# Altium schematic symbol library Schlib1.SchLib: 31 symbols
Pins are listed as number, name and electrical type; pins without a type are passive.

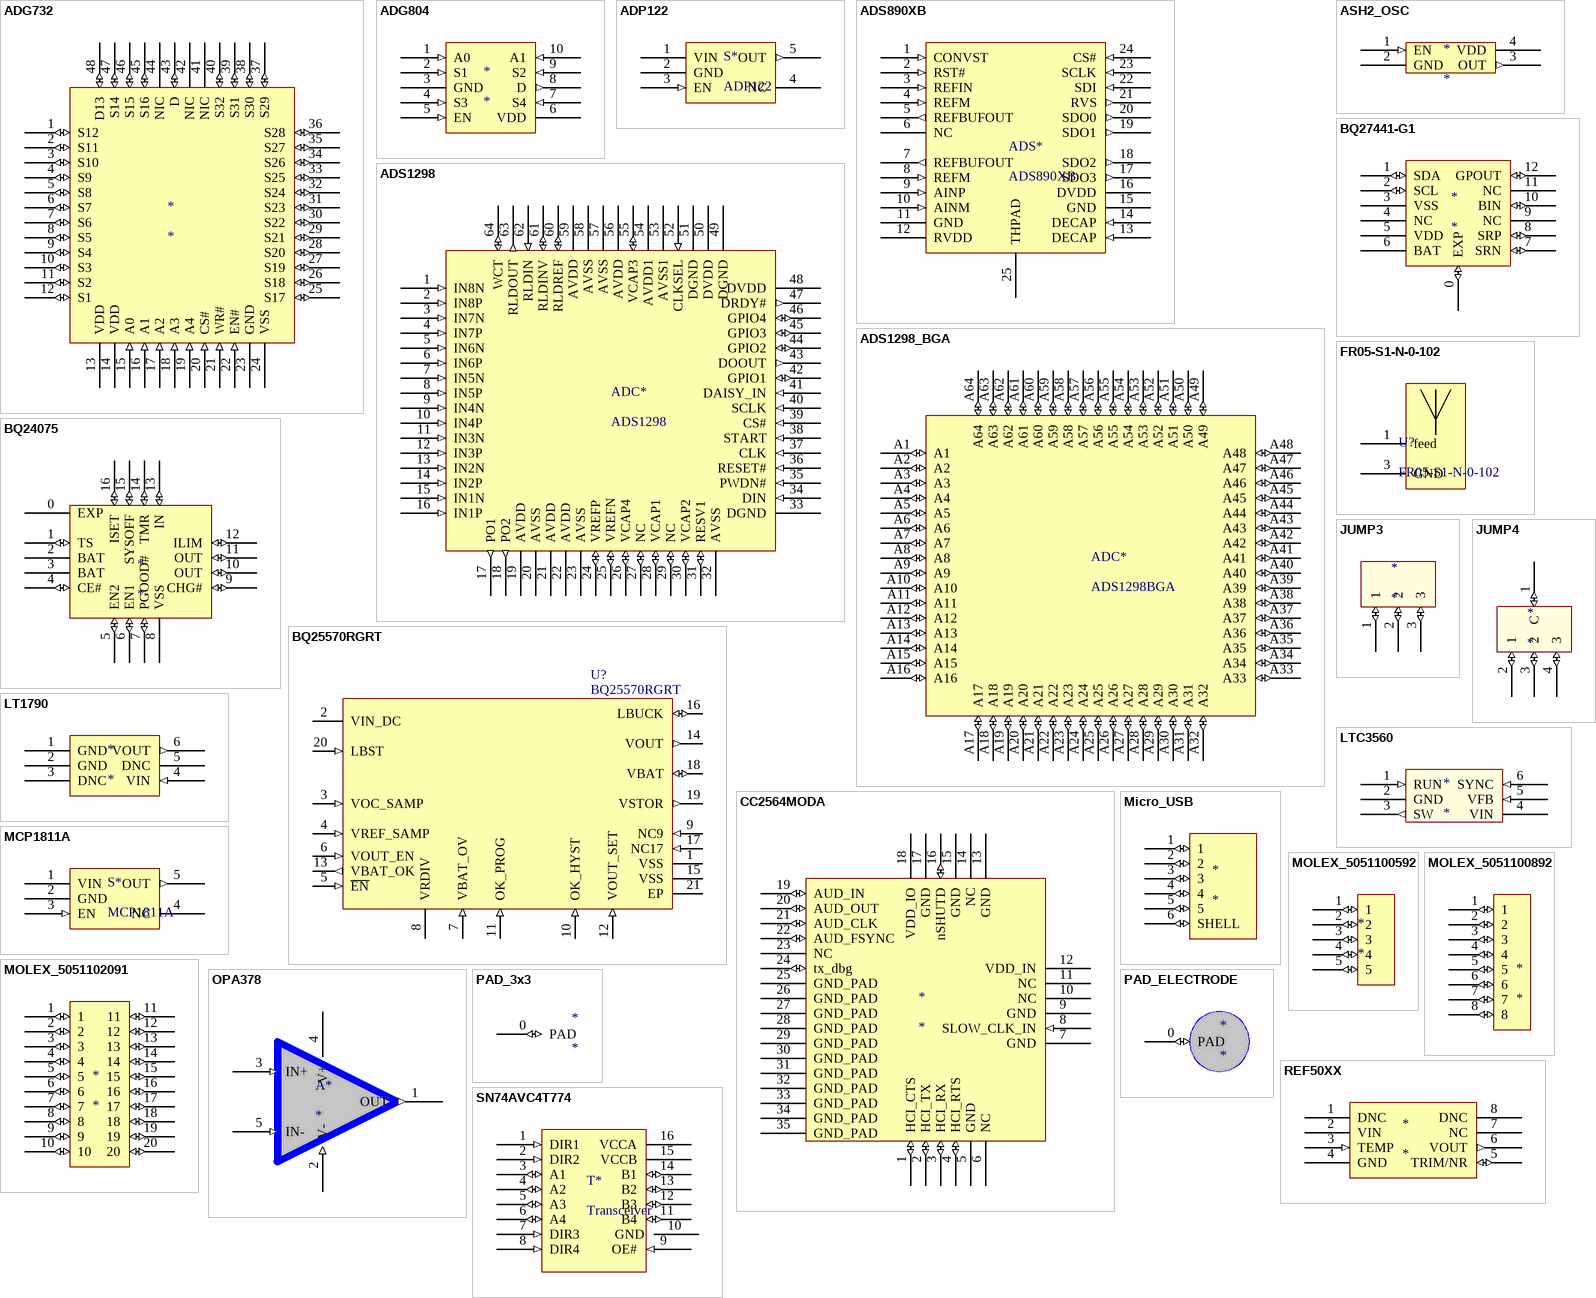
[diagram p0: symbols ADG732 to SN74AVC4T774]

## ADG732
designator *
footprint SU-48
pins: 1 S12 (io), 2 S11 (io), 3 S10 (io), 4 S9 (io), 5 S8 (io), 6 S7 (io), 7 S6 (io), 8 S5 (io), 9 S4 (io), 10 S3 (io), 11 S2 (io), 12 S1 (io), 13 VDD (power), 14 VDD (power), 15 A0 (in), 16 A1 (in), 17 A2 (in), 18 A3 (in), 19 A4 (in), 20 CS# (in), 21 WR# (in), 22 EN# (in), 23 GND (power), 24 VSS (power), 25 S17 (io), 26 S18 (io), 27 S19 (io), 28 S20 (io), 29 S21 (io), 30 S22 (io), 31 S23 (io), 32 S24 (io), 33 S25 (io), 34 S26 (io), 35 S27 (io), 36 S28 (io), 37 S29 (io), 38 S30 (io), 39 S31 (io), 40 S32 (io), 41 NIC, 42 NIC, 43 D (io), 44 NIC, 45 S16 (io), 46 S15 (io), 47 S14 (io), 48 D13 (io)

## ADG804
designator *
footprint RM-10
pins: 1 A0 (in), 2 S1 (in), 3 GND (power), 4 S3 (in), 5 EN (in), 6 VDD (power), 7 S4 (in), 8 D (out), 9 S2 (in), 10 A1 (in)

## ADP122
designator S*
Regulator
footprint UJ-5_N (SOT23, 5-Leads, Body 2.9x1.7mm, Pitch 0.95mm, Lead Span 2.8mm, IPC Medium Density)
pins: 1 VIN (power), 2 GND (power), 3 EN (in), 4 NC, 5 OUT (out)

## ADS890XB
designator ADS*
ADC TI
footprint RGE24_M (24-Pin Plastic Quad Flat No-Lead 0.5 mm Pitch, IPC Low Density)
pins: 1 CONVST (in), 2 RST# (in), 3 REFIN (in), 4 REFM (in), 5 REFBUFOUT (out), 6 NC, 7 REFBUFOUT (out), 8 REFM (in), 9 AINP (in), 10 AINM (in), 11 GND (power), 12 RVDD (power), 13 DECAP (in), 14 DECAP (in), 15 GND (power), 16 DVDD (power), 17 SDO3 (out), 18 SDO2 (out), 19 SDO1 (out), 20 SDO0 (out), 21 RVS (out), 22 SDI (in), 23 SCLK (in), 24 CS# (in), 25 THPAD (power)

## ADS1298
designator ADC*
footprint LQFP64_M (Thin QFP, 64-Leads, Body 10x10mm, Pitch 0.5mm, IPC Low Density)
pins: 1 IN8N (in), 2 IN8P (in), 3 IN7N (in), 4 IN7P (in), 5 IN6N (in), 6 IN6P (in), 7 IN5N (in), 8 IN5P (in), 9 IN4N (in), 10 IN4P (in), 11 IN3N (in), 12 IN3P (in), 13 IN2N (in), 14 IN2P (in), 15 IN1N (in), 16 IN1P (in), 17 PO1 (out), 18 PO2 (out), 19 AVDD (power), 20 AVSS (power), 21 AVDD (power), 22 AVDD (power), 23 AVSS (power), 24 VREFP (io), 25 VREFN (io), 26 VCAP4 (io), 27 NC (io), 28 VCAP1 (io), 29 NC (io), 30 VCAP2 (io), 31 RESV1 (io), 32 AVSS (power), 33 DGND (power), 34 DIN (in), 35 PWDN# (in), 36 RESET# (in), 37 CLK (in), 38 START (in), 39 CS# (in), 40 SCLK (in), 41 DAISY_IN (in), 42 GPIO1 (io), 43 DOOUT (out), 44 GPIO2 (io), 45 GPIO3 (io), 46 GPIO4 (io), 47 DRDY# (out), 48 DVDD (power), 49 DGND (power), 50 DVDD (power), 51 DGND (power), 52 CLKSEL (in), 53 AVSS1 (power), 54 AVDD1 (power), 55 VCAP3 (io), 56 AVDD (power), 57 AVSS (power), 58 AVSS (power), 59 AVDD (power), 60 RLDREF (io), 61 RLDINV (io), 62 RLDIN (in), 63 RLDOUT (out), 64 WCT (io)

## ADS1298_BGA
designator ADC*, comment ADS1298BGA
footprint LFBGA64 (BGA, 64-Leads, Body 8x8mm, Pitch 0.8mm)
pins: A1 (io), A2 (io), A3 (io), A4 (io), A5 (io), A6 (io), A7 (io), A8 (io), A9 (io), A10 (io), A11 (io), A12 (io), A13 (io), A14 (io), A15 (io), A16 (io), A17 (io), A18 (io), A19 (io), A20 (io), A21 (io), A22 (io), A23 (io), A24 (io), A25 (io), A26 (io), A27 (io), A28 (io), A29 (io), A30 (io), A31 (io), A32 (io), A33 (io), A34 (io), A35 (io), A36 (io), A37 (io), A38 (io), A39 (io), A40 (io), A41 (io), A42 (io), A43 (io), A44 (io), A45 (io), A46 (io), A47 (io), A48 (io), A49 (io), A50 (io), A51 (io), A52 (io), A53 (io), A54 (io), A55 (io), A56 (io), A57 (io), A58 (io), A59 (io), A60 (io), A61 (io), A62 (io), A63 (io), A64 (io)

## ASH2_OSC
designator *
footprint AKS2_OSC
pins: 1 EN (in), 2 GND (power), 3 OUT (out), 4 VDD (power)

## BQ24075
designator *
footprint RGT0016C
footprint RGT0016C_SMALL
pins: 0 EXP (power), 1 TS (io), 2 BAT (power), 3 BAT (power), 4 CE# (io), 5 EN2 (io), 6 EN1 (io), 7 PGOOD# (io), 8 VSS (power), 9 CHG# (io), 10 OUT (io), 11 OUT (io), 12 ILIM (io), 13 IN (io), 14 TMR (io), 15 SYSOFF (io), 16 ISET (io)

## BQ25570RGRT
designator U?
IC ENERGY HARV CTRLR BATT 20VQFN; Manufacturer: Texas Instruments; Current - Supply: 488nA; Voltage - Supply: 0.12 V ~ 4 V; Packaging: Tape & Reel (TR); Applications: Energy Harvesting; Operating Temperature: -40°C ~ 125°C; Mounting Type: Surface Mount; Package / Case: 20-VFQFN Exposed Pad; Supplier Device Package: 20-VQFN (3.5x3.5); P/N: BQ25570RGRT; Supplier: Digi-Key; Supplier Part Number: 296-37014-2-ND; ComponentLink1Description: bq25570.pdf; ComponentLink1URL: http://www.ti.com/lit/ds/symlink/bq25570.pdf
footprint VQFN20
pins: 1 VSS (power) "Input General ground connection for the device", 2 VIN_DC (power) "DC voltage input from energy harvesters", 3 VOC_SAMP (in) "Sampling pin for MPPT network. To disable MPPT, connect to VSTOR", 4 VREF_SAMP (in) "Switched node for holding the reference set by resistors on VOC_SAMP for MPPT. When MPPT is disabled, input for reference voltage", 5 ~{EN} (in) "Active low digital programming input for enabling/disabling the IC. Connect to GND to enable  the IC", 6 VOUT_EN (in) "Active high digital programming input for enabling/disabling the buck converter. Connect to  VSTOR to enable the buck converter", 7 VBAT_OV (in) "Connect to the mid-point of external resistor divider between VRDIV and GND for setting the  VBAT overvoltage threshold", 8 VRDIV (power) "Resistor divider biasing voltage.", 9 NC9 (in) "Connect to ground using the IC's PowerPAD", 10 OK_HYST (in) "Resistor divider input for VBAT_OK hysteresis threshold", 11 OK_PROG (in) "Connect to the mid-point of external resistor divider between VRDIV and GND for setting the  VBAT_OK threshold. If not used, connect this pin to GND", 12 VOUT_SET (in) "Connect to the mid-point of external resistor divider between VRDIV and GND for setting the  VOUT regulation set point.", 13 VBAT_OK (out) "Digital output for battery good indicator. Internally referenced to the VSTOR voltage. Leave  floating if not used", 14 VOUT (out) "Buck converter output. Connect at least 22 µF output capacitor between this pin and pin 15  (VSS)", 15 VSS (power) "General ground connection for the device", 16 LBUCK (io) "Inductor connection for the buck converter switching node. Connect at least a 4.7 µH inductor  between this pin and pin 14 (VOUT)", 17 NC17 (in) "Connect to ground using the IC's PowerPAD", 18 VBAT (io) "Connection for storage elements", 19 VSTOR (out) "Connection for the system load, output of the boost converter", 20 LBST (in) "Inductor connection for the boost converter switching node", 21 EP "Exposed Thermal Pad"

## BQ27441-G1
designator *
footprint DRZ12
footprint DRZ12_SMALL
pins: 0 EXP (io), 1 SDA (io), 2 SCL (io), 3 VSS (power), 4 NC, 5 VDD (power), 6 BAT (power), 7 SRN (io), 8 SRP (io), 9 NC, 10 BIN (io), 11 NC, 12 GPOUT (io)

## CC2564MODA
designator *
footprint cc2564moda
pins: 1 HCI_CTS (io), 2 HCI_TX (io), 3 HCI_RX (io), 4 HCI_RTS (io), 5 GND (power), 6 NC, 7 GND (power), 8 SLOW_CLK_IN (in), 9 GND (power), 10 NC, 11 NC, 12 VDD_IN (power), 13 GND (power), 14 NC, 15 GND (power), 16 nSHUTD (io), 17 GND (power), 18 VDD_IO (power), 19 AUD_IN (io), 20 AUD_OUT (io), 21 AUD_CLK (io), 22 AUD_FSYNC (io), 23 NC, 24 tx_dbg (io), 25 GND_PAD (power), 26 GND_PAD (power), 27 GND_PAD (power), 28 GND_PAD (power), 29 GND_PAD (power), 30 GND_PAD (power), 31 GND_PAD (power), 32 GND_PAD (power), 33 GND_PAD (power), 34 GND_PAD (power), 35 GND_PAD (power)

## FR05-S1-N-0-102
designator U?
Bluetooth antenna
footprint DFN510P700X220-2N
pins: 1 feed, 2 not connected hidden, 3 GND

## JUMP3
designator *
footprint JMP3
pins: 1 (io), 2 (io), 3 (io)

## JUMP4
designator *
footprint JMP4
pins: 1 C (io), 2 1 (io), 3 2 (io), 4 3 (io)

## LT1790
designator *
footprint SOT-23_A_N (Footprint not found)
pins: 1 GND (power), 2 GND (power), 3 DNC, 4 VIN (in), 5 DNC, 6 VOUT (out)

## LTC3560
designator *
footprint SOT23-6_N (Footprint not found)
pins: 1 RUN (in), 2 GND (power), 3 SW (out), 4 VIN (power), 5 VFB (in), 6 SYNC (in)

## MCP1811A
designator S*
Regulator
footprint UJ-5_N (SOT23, 5-Leads, Body 2.9x1.7mm, Pitch 0.95mm, Lead Span 2.8mm, IPC Medium Density)
pins: 1 VIN (power), 2 GND (power), 3 EN (in), 4 NC, 5 OUT (out)

## Micro_USB
designator *
footprint USB 10118192-0001LF
pins: 1 (io), 2 (io), 3 (io), 4 (io), 5 (io), 6 SHELL (io)

## MOLEX_5051100592
designator *
footprint MOLEX_5051100592 (CONN FCC 8 poles, 0.5mm)
pins: 1 (io), 2 (io), 3 (io), 4 (io), 5 (io)

## MOLEX_5051100892
designator *
footprint MOLEX_5051100892 (CONN FCC 8 poles, 0.5mm)
pins: 1 (io), 2 (io), 3 (io), 4 (io), 5 (io), 6 (io), 7 (io), 8 (io)

## MOLEX_5051102091
designator *
footprint MOLEX_5051102091 (20 PIN FFC CONNECTOR)
pins: 1 (io), 2 (io), 3 (io), 4 (io), 5 (io), 6 (io), 7 (io), 8 (io), 9 (io), 10 (io), 11 (io), 12 (io), 13 (io), 14 (io), 15 (io), 16 (io), 17 (io), 18 (io), 19 (io), 20 (io)

## OPA378
designator A*
footprint SOT23-5 (SOT-23/SC-74A; 5 Leads; Body 3 x 3 mm, inc. leads (LxW max))
pins: 1 OUT (out), 2 V- (in), 3 IN+ (in), 4 V+ (power), 5 IN- (in)

## PAD_3x3
designator *
footprint PAD_2x2
pins: 0 PAD (io)

## PAD_ELECTRODE
designator *
footprint PAD_ELECTRODE
footprint PAD_ELECTRODE2
pins: 0 PAD (io)

## REF50XX
designator *
footprint DGK8
pins: 1 DNC, 2 VIN (power), 3 TEMP (in), 4 GND (power), 5 TRIM/NR (io), 6 VOUT (out), 7 NC, 8 DNC

## SN74AVC4T774
designator T*, comment Transceiver
footprint PW016_M (TSOP, 16-Leads, Body 5x4.4mm, Pitch 0.65mm, IPC Low Density)
pins: 1 DIR1 (in), 2 DIR2 (in), 3 A1 (io), 4 A2 (io), 5 A3 (io), 6 A4 (io), 7 DIR3 (in), 8 DIR4 (in), 9 OE# (in), 10 GND (power), 11 B4 (io), 12 B3 (io), 13 B2 (io), 14 B1 (io), 15 VCCB (power), 16 VCCA (power)

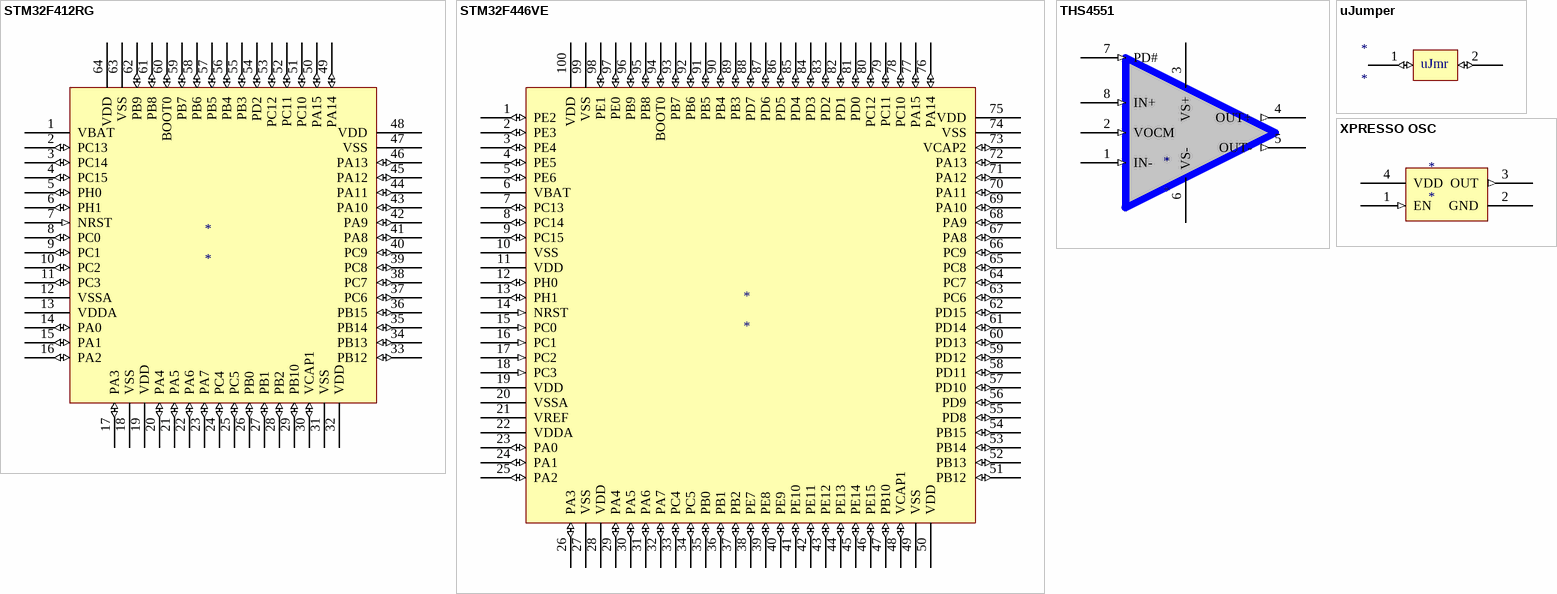
[diagram p1: symbols STM32F412RG to XPRESSO OSC]

## STM32F412RG
designator *
footprint LQFP64_M (Thin QFP, 64-Leads, Body 10x10mm, Pitch 0.5mm, IPC Low Density)
pins: 1 VBAT (power), 2 PC13 (io), 3 PC14 (io), 4 PC15 (io), 5 PH0 (io), 6 PH1 (io), 7 NRST (in), 8 PC0 (io), 9 PC1 (io), 10 PC2 (io), 11 PC3 (io), 12 VSSA (power), 13 VDDA (power), 14 PA0 (io), 15 PA1 (io), 16 PA2 (io), 17 PA3 (io), 18 VSS (power), 19 VDD (power), 20 PA4 (io), 21 PA5 (io), 22 PA6 (io), 23 PA7 (io), 24 PC4 (io), 25 PC5 (io), 26 PB0 (io), 27 PB1 (io), 28 PB2 (io), 29 PB10 (io), 30 VCAP1 (io), 31 VSS (power), 32 VDD (power), 33 PB12 (io), 34 PB13 (io), 35 PB14 (io), 36 PB15 (io), 37 PC6 (io), 38 PC7 (io), 39 PC8 (io), 40 PC9 (io), 41 PA8 (io), 42 PA9 (io), 43 PA10 (io), 44 PA11 (io), 45 PA12 (io), 46 PA13 (io), 47 VSS (power), 48 VDD (power), 49 PA14 (io), 50 PA15 (io), 51 PC10 (io), 52 PC11 (io), 53 PC12 (io), 54 PD2 (io), 55 PB3 (io), 56 PB4 (io), 57 PB5 (io), 58 PB6 (io), 59 PB7 (io), 60 BOOT0 (io), 61 PB8 (io), 62 PB9 (io), 63 VSS (power), 64 VDD (power)

## STM32F446VE
designator *
footprint LQFP100_M (Thin QFP, 100-Leads, Body 14x14mm, Pitch 0.5mm, IPC Low Density)
pins: 1 PE2 (io), 2 PE3 (io), 3 PE4 (io), 4 PE5 (io), 5 PE6 (io), 6 VBAT (power), 7 PC13 (io), 8 PC14 (io), 9 PC15 (io), 10 VSS (power), 11 VDD (power), 12 PH0 (io), 13 PH1 (io), 14 NRST (in), 15 PC0 (in), 16 PC1 (in), 17 PC2 (in), 18 PC3 (in), 19 VDD (power), 20 VSSA (power), 21 VREF (power), 22 VDDA (power), 23 PA0 (io), 24 PA1 (io), 25 PA2 (io), 26 PA3 (io), 27 VSS (power), 28 VDD (power), 29 PA4 (io), 30 PA5 (io), 31 PA6 (io), 32 PA7 (io), 33 PC4 (io), 34 PC5 (io), 35 PB0 (io), 36 PB1 (io), 37 PB2 (io), 38 PE7 (io), 39 PE8 (io), 40 PE9 (io), 41 PE10 (io), 42 PE11 (io), 43 PE12 (io), 44 PE13 (io), 45 PE14 (io), 46 PE15 (io), 47 PB10 (io), 48 VCAP1 (io), 49 VSS (power), 50 VDD (power), 51 PB12 (io), 52 PB13 (io), 53 PB14 (io), 54 PB15 (io), 55 PD8 (io), 56 PD9 (io), 57 PD10 (io), 58 PD11 (io), 59 PD12 (io), 60 PD13 (io), 61 PD14 (io), 62 PD15 (io), 63 PC6 (io), 64 PC7 (io), 65 PC8 (io), 66 PC9 (io), 67 PA8 (io), 68 PA9 (io), 69 PA10 (io), 70 PA11 (io), 71 PA12 (io), 72 PA13 (io), 73 VCAP2 (io), 74 VSS (power), 75 VDD (power), 76 PA14 (io), 77 PA15 (io), 78 PC10 (io), 79 PC11 (io), 80 PC12 (io), 81 PD0 (io), 82 PD1 (io), 83 PD2 (io), 84 PD3 (io), 85 PD4 (io), 86 PD5 (io), 87 PD6 (io), 88 PD7 (io), 89 PB3 (io), 90 PB4 (io), 91 PB5 (io), 92 PB6 (io), 93 PB7 (io), 94 BOOT0 (io), 95 PB8 (io), 96 PB9 (io), 97 PE0 (io), 98 PE1 (io), 99 VSS (power), 100 VDD (power)

## THS4551
designator *
footprint DGK8
pins: 1 IN- (in), 2 VOCM (in), 3 VS+ (power), 4 OUT+ (out), 5 OUT- (out), 6 VS- (power), 7 PD# (in), 8 IN+ (in)

## uJumper
designator *
footprint UJMPR (Micro Jumper)
pins: 1 (io), 2 (io)
text: uJmr

## XPRESSO OSC
designator *
footprint FXO (FXO Crystal Oscillator)
pins: 1 EN (in), 2 GND (power), 3 OUT (out), 4 VDD (power)